# Altium integrated library FDLL4148.IntLib: 1 symbol
Pins are listed as number, name and electrical type; pins without a type are passive.

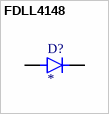
[diagram p0: symbol FDLL4148]

## FDLL4148
designator D?
Diode Standard 100 V 200mA Surface Mount SOD-80; MF: ON Semiconductor; MP: FDLL4148; SnapEDA_Link: https://www.snapeda.com/parts/FDLL4148/Onsemi/view-part/?ref=snap; Package: SOD-80-2 ON Semiconductor; Value: *; Check_prices: https://www.snapeda.com/parts/FDLL4148/Onsemi/view-part/?ref=eda
footprint DIOMELF3414N
pins: A, C